# EAGLE library part AS-ITM-00071 (library tinycircuits)
RN42 BLUETOOTH MODULE
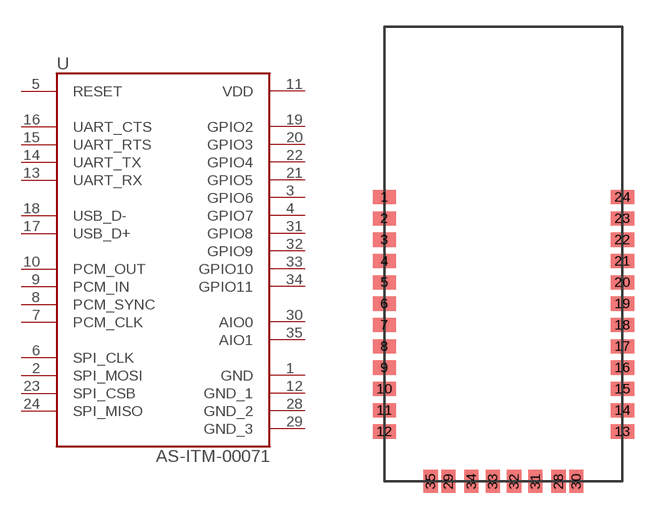
[diagram p25: symbol with the pads of RN42_BLUETOOTH_MODULE; footprint RN42_BLUETOOTH_MODULE]

Designator prefix U

## AS-ITM-00071 (PARTNO: AS-ITM-00071; VALUE: RN42)  [RN42_BLUETOOTH_MODULE]
1  GND
2  SPI_MOSI
3  GPIO6
4  GPIO7
5  RESET
6  SPI_CLK
7  PCM_CLK
8  PCM_SYNC
9  PCM_IN
10  PCM_OUT
11  VDD
12  GND_1
13  UART_RX
14  UART_TX
15  UART_RTS
16  UART_CTS
17  USB_D+
18  USB_D-
19  GPIO2
20  GPIO3
21  GPIO5
22  GPIO4
23  SPI_CSB
24  SPI_MISO
28  GND_2
29  GND_3
30  AIO0
31  GPIO8
32  GPIO9
33  GPIO10
34  GPIO11
35  AIO1

## Footprint RN42_BLUETOOTH_MODULE (pad centres in mm)
smd 1.3 x 0.8: 1 -6.35,4.57; 2 -6.35,3.37; 3 -6.35,2.17; 4 -6.35,0.97; 5 -6.35,-0.23; 6 -6.35,-1.43; 7 -6.35,-2.63; 8 -6.35,-3.83; 9 -6.35,-5.03; 10 -6.35,-6.23; 11 -6.35,-7.43; 12 -6.35,-8.63; 13 7.05,-8.63; 14 7.05,-7.43; 15 7.05,-6.23; 16 7.05,-5.03; 17 7.05,-3.83; 18 7.05,-2.63; 19 7.05,-1.43; 20 7.05,-0.23; 21 7.05,0.97; 22 7.05,2.17; 23 7.05,3.37; 24 7.05,4.57
smd 0.8 x 1.3: 28 3.45,-11.43; 29 -2.75,-11.43; 30 4.45,-11.43; 31 2.15,-11.43; 32 0.95,-11.43; 33 -0.25,-11.43; 34 -1.45,-11.43; 35 -3.75,-11.43